# Altium schematic symbol library Sheet_1_2021-12-20.SCHLIB: 1 symbol
Pins are listed as number, name and electrical type; pins without a type are passive.

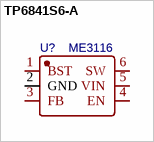
[diagram p0: symbol TP6841S6-A]

## TP6841S6-A
designator U?, comment ME3116
BOM_Manufacturer: TECH PUBLIC(台舟); BOM_Manufacturer Part: TP6841S6-A; Contributor: LCSC; BOM_Supplier: LCSC; BOM_Supplier Part: C2844924; BOM_JLCPCB Part Class: Extended Part; spicePre: U; spiceSymbolName: TP6841S6-A
footprint SOT-23-6_L2.9-W1.6-P0.95-LS2.8-BL
pins: 1 BST, 2 GND, 3 FB, 4 EN, 5 VIN, 6 SW